# Altium footprint library ZX_UNO_Aplus_HAT1.PcbLib: 5 footprints
Each footprint in its own frame and in the unit in brackets; x right, y up, seen from the top. Pads: shape width x height; smd on the part's side, far side on the other; paste and mask are expansions set on the pad; w line width, h text height; cw(c..) or ccw(c..) is an arc to the next point about the centre after c.
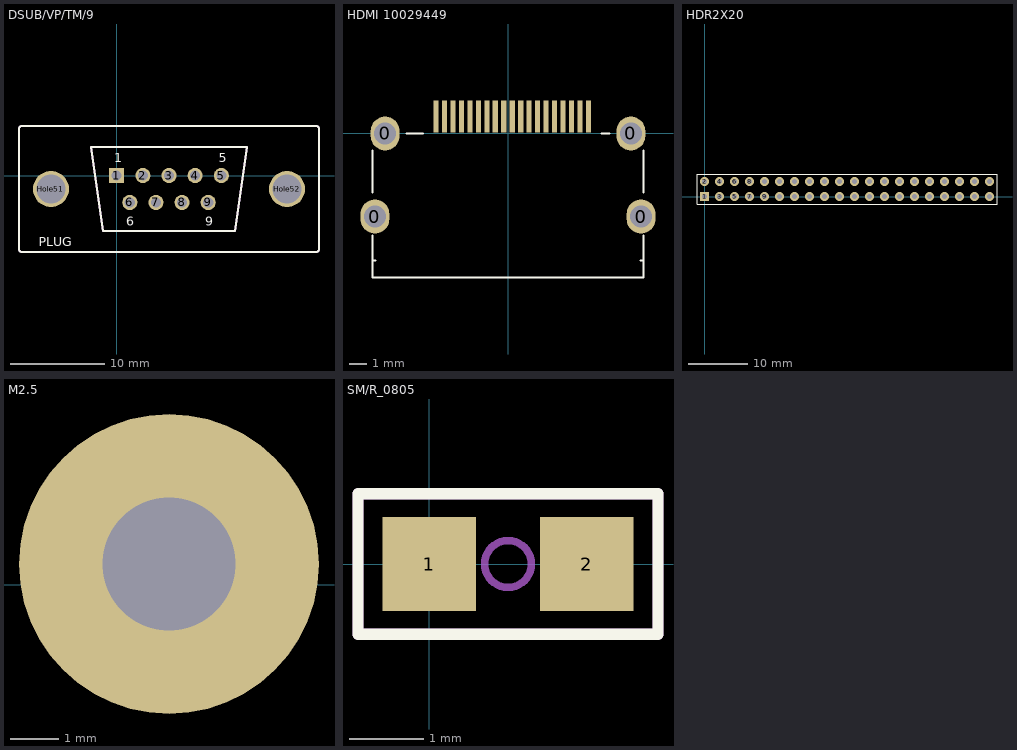
[diagram p0: the footprints below, top view; thin cyan lines are the x and y axes]

## DSUB/VP/TM/9 [mil]
pads (11):
  rect 63x63 hole 42: 1(0,0)
  round 63 hole 42: 2(109,0) 3(218,0) 4(327,0) 5(436,0) 6(54.5,-112) 7(163.5,-112) 8(272.5,-112) 9(381.5,-112)
  round 150 hole 120: Hole51(-274,-56) Hole52(710,-56)
Top Overlay:
  lines w8: -407,-306 ccw(c-394.5,-306) -394.5,-318.5 830.5,-318.5 ccw(c830.5,-306) 843,-306 843,194 ccw(c830.5,194) 830.5,206.5 -394.5,206.5 ccw(c-394.5,194) -407,194 -407,-306 ; -107,119 543,119 493,-231 -57,-231 -107,119
  text "PLUG" at -325,-295 h37.5
  text "1" at -10,55 h37.5
  text "5" at 425,55 h37.5
  text "9" at 370,-210 h37.5
  text "6" at 40,-210 h37.5
Mechanical 1:
  lines w8: -407,-306 ccw(c-394.5,-306) -394.5,-318.5 830.5,-318.5 ccw(c830.5,-306) 843,-306 843,194 ccw(c830.5,194) 830.5,206.5 -394.5,206.5 ccw(c-394.5,194) -407,194 -407,-306 ; -107,119 543,119 493,-231 -57,-231 -107,119
  text "PLUG" at -325,-295 h37.5
  text "1" at -10,55 h37.5
  text "5" at 425,55 h37.5
  text "9" at 370,-210 h37.5
  text "6" at 40,-210 h37.5

## HDMI 10029449 [mm]
pads (23):
  oval 1.7x2 hole 1.3: 0(-7.85,-4.9) 0(-7.25,0) 0(7.25,0) 0(7.85,-4.9)
  rect 0.3x1.9 smd: 1(4.75,1) 2(4.25,1) 3(3.75,1) 4(3.25,1) 5(2.75,1) 6(2.25,1) 7(1.75,1) 8(1.25,1) 9(0.75,1) 10(0.25,1) 11(-0.25,1) 12(-0.75,1) 13(-1.25,1) 14(-1.75,1) 15(-2.25,1) 16(-2.75,1) 17(-3.25,1) 18(-3.75,1) 19(-4.25,1)
Top Overlay:
  lines w0.102: -8,-7.5 -7.8,-7.5 ; -8,-6 -8,-8.5 8,-8.5 8,-6 ; -8,-3.5 -8,-1 ; -6,0 -5,0 ; 5.5,0 6,0 ; 7.8,-7.5 8,-7.5 ; 8,-3.5 8,-1

## HDR2X20 [mm] "Connector; Header; 20x2 Position"
pads (40):
  rect 1.5x1.5 hole 0.9: 1(0,0)
  round 1.5 hole 0.9: 2(0,2.54) 3(2.54,0) 4(2.54,2.54) 5(5.08,0) 6(5.08,2.54) 7(7.62,0) 8(7.62,2.54) 9(10.16,0) 10(10.16,2.54) 11(12.7,0) 12(12.7,2.54) 13(15.24,0) 14(15.24,2.54) 15(17.78,0) 16(17.78,2.54) 17(20.32,0) 18(20.32,2.54) 19(22.86,0) 20(22.86,2.54) 21(25.4,0) 22(25.4,2.54) 23(27.94,0) 24(27.94,2.54) 25(30.48,0) 26(30.48,2.54) 27(33.02,0) 28(33.02,2.54) 29(35.56,0) 30(35.56,2.54) 31(38.1,0) 32(38.1,2.54) 33(40.64,0) 34(40.64,2.54) 35(43.18,0) 36(43.18,2.54) 37(45.72,0) 38(45.72,2.54) 39(48.26,0) 40(48.26,2.54)
Top Overlay:
  lines w0.2: -1.27,-1.27 49.53,-1.27 49.53,3.81 -1.27,3.81 -1.27,-1.27

## M2.5 [mm]
pads (1):
  round 6.2 hole 2.75: ""(21.85,0.43)

## SM/R_0805 [mil]
height 212.6
pads (2):
  rect 50x50 smd: 1(0,0) 2(84,0)
Top Overlay:
  lines w6: -38,-37.5 122,-37.5 122,37.5 -38,37.5 -38,-37.5
Mechanical 1:
  lines w6: -38,-37.5 122,-37.5 122,37.5 -38,37.5 -38,-37.5
Mechanical 3:
  lines w4: 29.5,0 cw(c42,0) 42,12.5 cw(c42,0) 54.5,0 cw(c42,0) 42,-12.5 cw(c42,0) 29.5,0